# Altium schematic symbol library Schlib.SchLib: 3 symbols
Pins are listed as number, name and electrical type; pins without a type are passive.

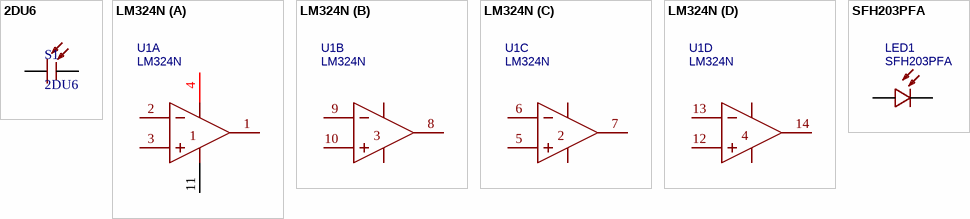
[diagram p0: symbols 2DU6 to SFH203PFA]

## 2DU6
designator S1
footprint 2DU6PERSONAL
pins: 1 C, 2 E

## LM324N
designator U1
BOM_Manufacturer: HGSEMI; subpart_no: 1; BOM_Supplier: LCSC; BOM_Supplier Part: C725320; BOM_Manufacturer Part: LM324N; BOM_JLCPCB Part Class: Extended Part; spicePre: U; spiceSymbolName: LM324N_C725320
footprint DIP-14_L19.4-W6.4-P2.54-LS7.6-BL
part A pins: 1 OUT1, 2 IN1-, 3 IN1+, 4 VCC, 11 GND
part B pins: 8 OUT3, 9 IN3-, 10 IN3+
part C pins: 5 IN2+, 6 IN2-, 7 OUT2
part D pins: 12 IN4+, 13 IN4-, 14 OUT4

## SFH203PFA
designator LED1
BOM_Manufacturer: OSRAM Opto Semicon; Contributor: LCSC; BOM_Supplier: LCSC; BOM_Supplier Part: C554984; BOM_Manufacturer Part: SFH203PFA; BOM_JLCPCB Part Class: Extended Part; spicePre: L; spiceSymbolName: SFH203PFA
footprint LED-TH_BD5.9-P2.54-FD
pins: 1 C, 2 E